# EAGLE library part LT6232 (library linear-technology)
215MHz, Rail-to-Rail Output, 1.1nV/Hz, 3.5mA Op Amp Source: http://cds.linear.com/docs/Datasheet/623012fb.pdf
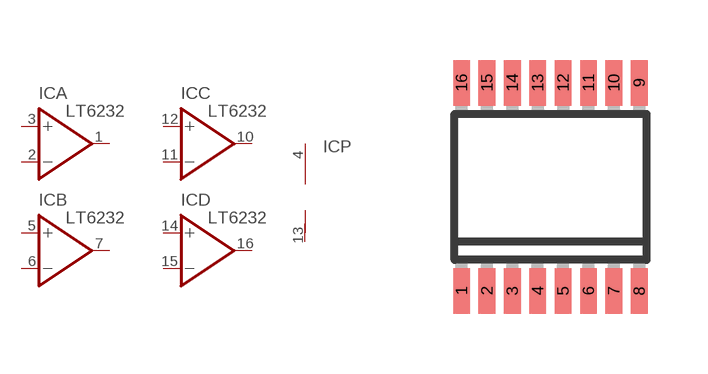
[diagram p26: symbol with the pads of SSOP16; footprint SSOP16]

Designator prefix IC; gates A=OPAMP B=OPAMP C=OPAMP D=OPAMP P=V+-

## LT6232CGN (MPN: LT6232CGN; OC_FARNELL: unknown; OC_NEWARK: 57M9360), LT6232IGN (MPN: LT6232IGN; OC_FARNELL: unknown; OC_NEWARK: 57M9364)  [SSOP16]
1  A:OUT  out
2  A:-IN  in
3  A:+IN  in
4  P:V+  pwr
5  B:+IN  in
6  B:-IN  in
7  B:OUT  out
10  C:OUT  out
11  C:-IN  in
12  C:+IN  in
13  P:V-  pwr
14  D:+IN  in
15  D:-IN  in
16  D:OUT  out

## Footprint SSOP16 (pad centres in mm)
GN Package 16-Lead Plastic SSOP (Narrow .150 Inch) Source: http://cds.linear.com/docs/Datasheet/623012fb.pdf
smd 0.419 x 1.143: 1 -2.223,-2.6; 2 -1.587,-2.6; 3 -0.953,-2.6; 4 -0.318,-2.6; 5 0.318,-2.6; 6 0.953,-2.6; 7 1.587,-2.6; 8 2.223,-2.6; 9 2.223,2.6; 10 1.587,2.6; 11 0.953,2.6; 12 0.318,2.6; 13 -0.318,2.6; 14 -0.953,2.6; 15 -1.587,2.6; 16 -2.223,2.6